# Altium schematic symbol library SRP4020TA-100M.SchLib: 1 symbol
Pins are listed as number, name and electrical type; pins without a type are passive.

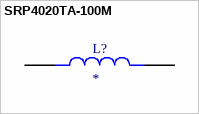
[diagram p0: symbol SRP4020TA-100M]

## SRP4020TA-100M
designator L?
MF: {'manufacturer': u'Bourns Inc.'}; MP: SRP4020TA-100M; Package: None; Price: None; Value: *; Availability: Unavailable
footprint IND_SRP4020TA-100M
pins: 1, 2